# Altium footprint library SM_R_ARRAY_8UP_2506_CONCAVE.PcbLib: 1 footprints
Each footprint in its own frame and in the unit in brackets; x right, y up, seen from the top. Pads: shape width x height; smd on the part's side, far side on the other; paste and mask are expansions set on the pad; w line width, h text height; cw(c..) or ccw(c..) is an arc to the next point about the centre after c.
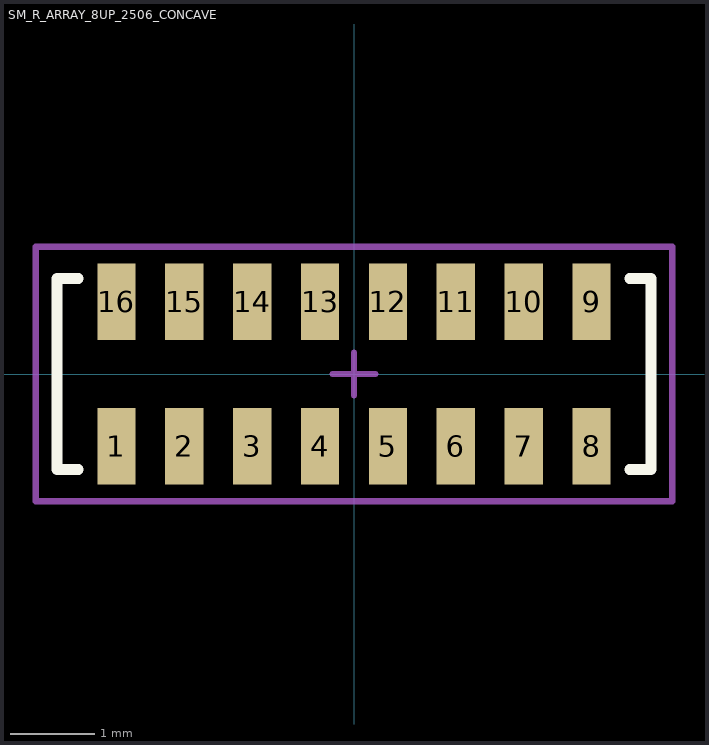
[diagram p0: the footprint, top view; thin cyan lines are the x and y axes]

## SM_R_ARRAY_8UP_2506_CONCAVE [mm] "8 Up Resistor Array Concave 2506"
pads (16):
  rect 0.45x0.9 smd mask+0.076: 1(-2.8,-0.85) 2(-2,-0.85) 3(-1.2,-0.85) 4(-0.4,-0.85) 5(0.4,-0.85) 6(1.2,-0.85) 7(2,-0.85) 8(2.8,-0.85) 9(2.8,0.85) 10(2,0.85) 11(1.2,0.85) 12(0.4,0.85) 13(-0.4,0.85) 14(-1.2,0.85) 15(-2,0.85) 16(-2.8,0.85)
Top Overlay:
  lines w0.127: -3.25,-1.125 -3.5,-1.125 -3.5,1.125 -3.25,1.125 ; 3.25,-1.125 3.5,-1.125 3.5,1.125 3.25,1.125
Mechanical 15:
  lines w0.076: -0.25,0 0.25,0 ; 0,-0.25 0,0.25 ; -3.75,-1.5 -3.75,1.5 3.75,1.5 3.75,-1.5 -3.75,-1.5
3D body: height 0.65, standoff 0, extent -3.3,-0.9 3.3,0.9
3D body: height 0.7, standoff 0.65, extent -3.3,-0.6 3.3,0.6